# EAGLE library part WE-DS_216111023 (library Wurth_Elektronik_Passive_rev16c)
WE-DS D-SUB-Filter, Solder Pin Straight Characteristics Standard type filtered with 1000 pF High attenuation: max. ≥ 40 dB @ 180 MHz Choice of UNC 4/40 or through hole Rated voltage: 100 VDC Rated current @ 20 ºC: 5 A Withstand voltage: 250 VRMS Insulation resistance: min. 1000 MΩ Operating temperature: –55 ºC to +125 ºC Applications Filtering of interfaces External connection to -printer -sensor -display <http://katalog.we-online.de/media/images/v2/Family_D-SUB-Filter_mit_geradem_Ltstift.jpg> Details see: http://katalog.we-online.de/en/pbs/D-SUB-FILTER-STRAIGHT 2016 (C) Wurth Elektronik
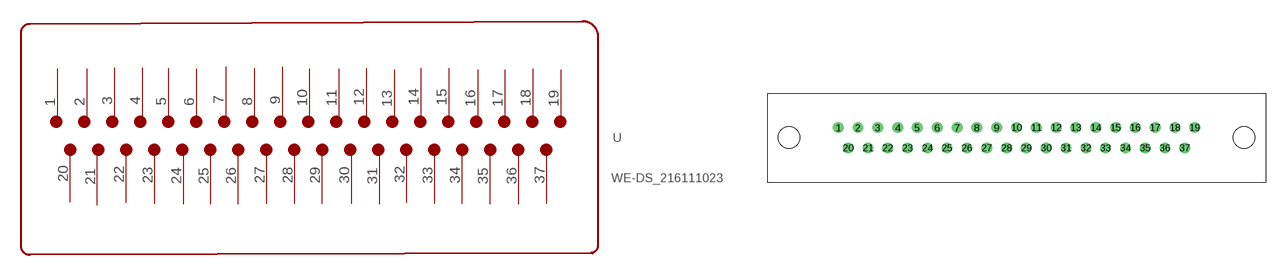
[diagram p250: symbol with the pads of WE-DS_2161110X3; footprint WE-DS_2161110X3]

Designator prefix -

## WE-DS_216111023  [WE-DS_2161110X3]
1  1
2  2
3  3
4  4
5  5
6  6
7  7
8  8
9  9
10  10
11  11
12  12
13  13
14  14
15  15
16  16
17  17
18  18
19  19
20  20
21  21
22  22
23  23
24  24
25  25
26  26
27  27
28  28
29  29
30  30
31  31
32  32
33  33
34  34
35  35
36  36
37  37

## Footprint WE-DS_2161110X3 (pad centres in mm)
drill 1: 1 -22,1.42; 2 -19.26,1.42; 3 -16.49,1.42; 4 -13.72,1.42; 5 -10.98,1.42; 6 -8.21,1.42; 7 -5.44,1.42; 8 -2.7,1.42; 9 0.07,1.42; 10 2.84,1.42; 11 5.61,1.42; 12 8.38,1.42; 13 11.12,1.42; 14 13.89,1.42; 15 16.66,1.42; 16 19.4,1.42; 17 22.17,1.42; 18 24.94,1.42; 19 27.68,1.42; 20 -20.63,-1.42; 21 -17.86,-1.42; 22 -15.12,-1.42; 23 -12.35,-1.42; 24 -9.58,-1.42; 25 -6.84,-1.42; 26 -4.07,-1.42; 27 -1.3,-1.42; 28 1.46,-1.42; 29 4.22,-1.42; 30 6.98,-1.42; 31 9.75,-1.42; 32 12.52,-1.42; 33 15.26,-1.42; 34 18.03,-1.42; 35 20.8,-1.42; 36 23.54,-1.42; 37 26.31,-1.42
hole 3 at -28.91,0
hole 3 at 34.59,0